# Altium schematic symbol library Pathos_Div.SCHLIB: 26 symbols
Pins are listed as number, name and electrical type; pins without a type are passive.

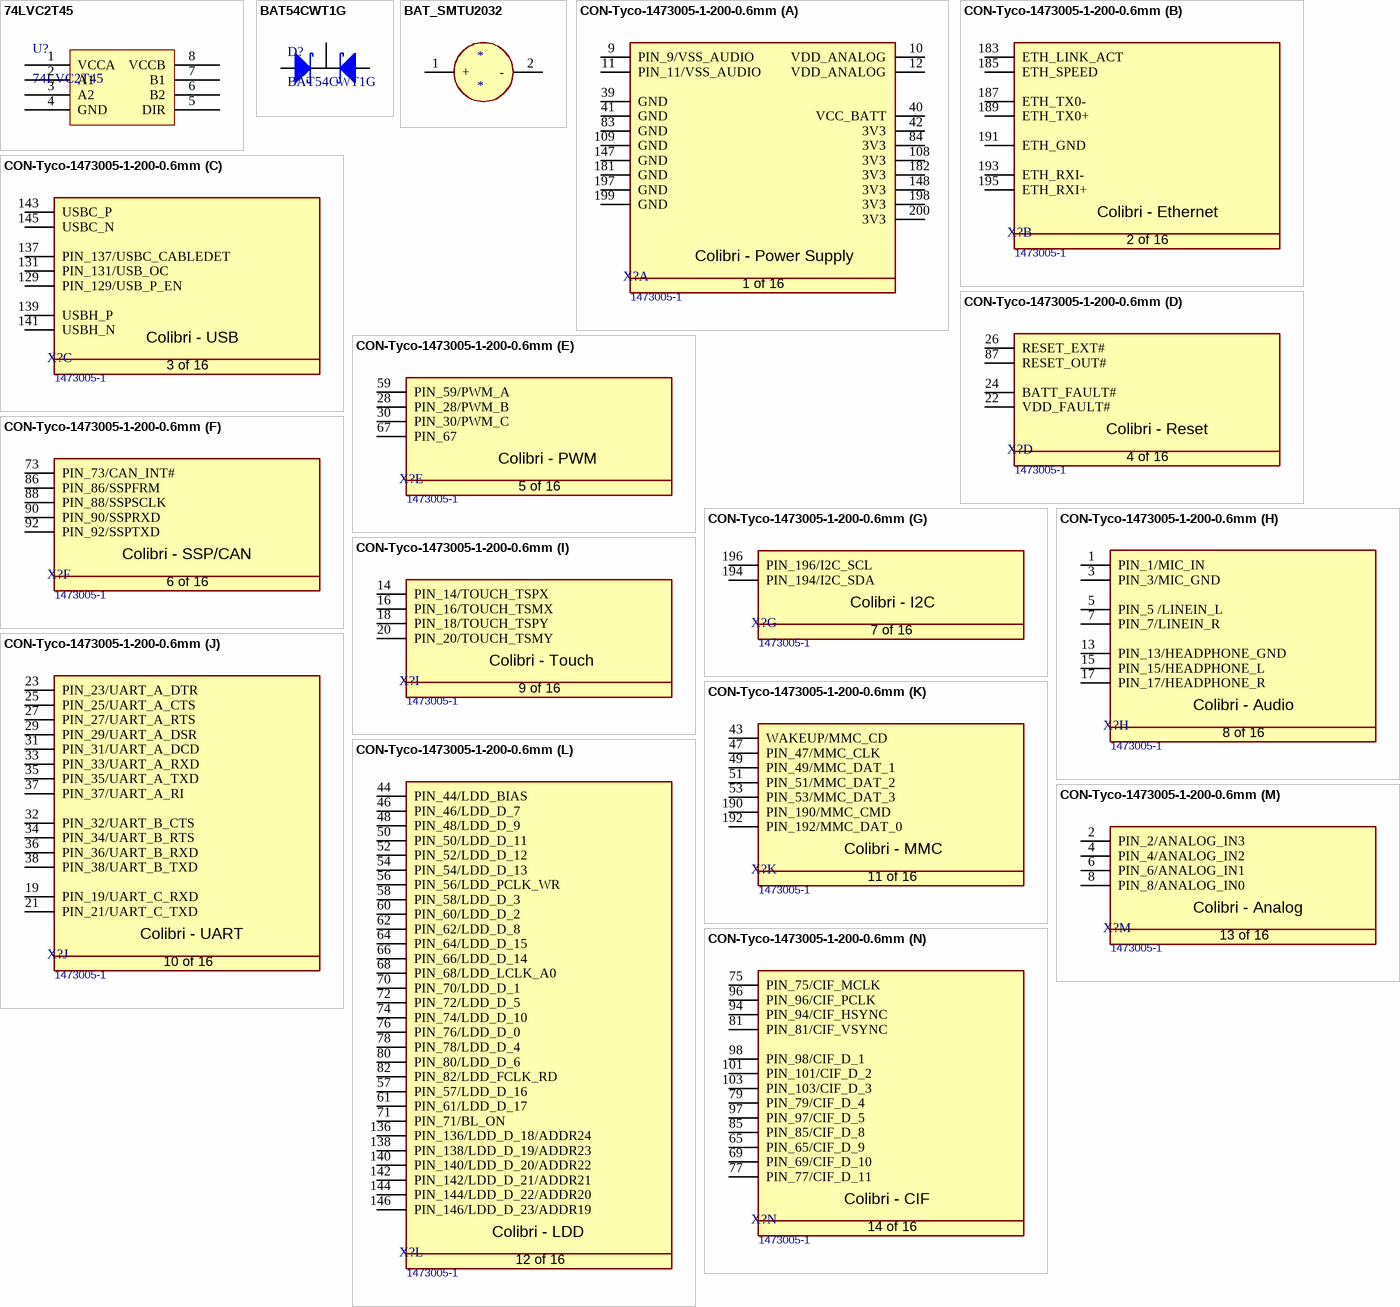
[diagram p0: symbols 74LVC2T45 to CON-Tyco-1473005-1-200-0.6mm]

## 74LVC2T45
designator U?
SN74LVC2T45DCTR
footprint 74LVC2T45
pins: 1 VCCA, 2 A1, 3 A2, 4 GND, 5 DIR, 6 B2, 7 B1, 8 VCCB

## BAT54CWT1G
designator D?
footprint SOT-323 (SOT-323/SC-70; 3 Leads; Body 2.2 x 2.2 mm, inc. leads (LxW max))
pins: 1, 2, 3

## BAT_SMTU2032
designator *
footprint SMTU2032-LF
pins: 1 +, 2 -

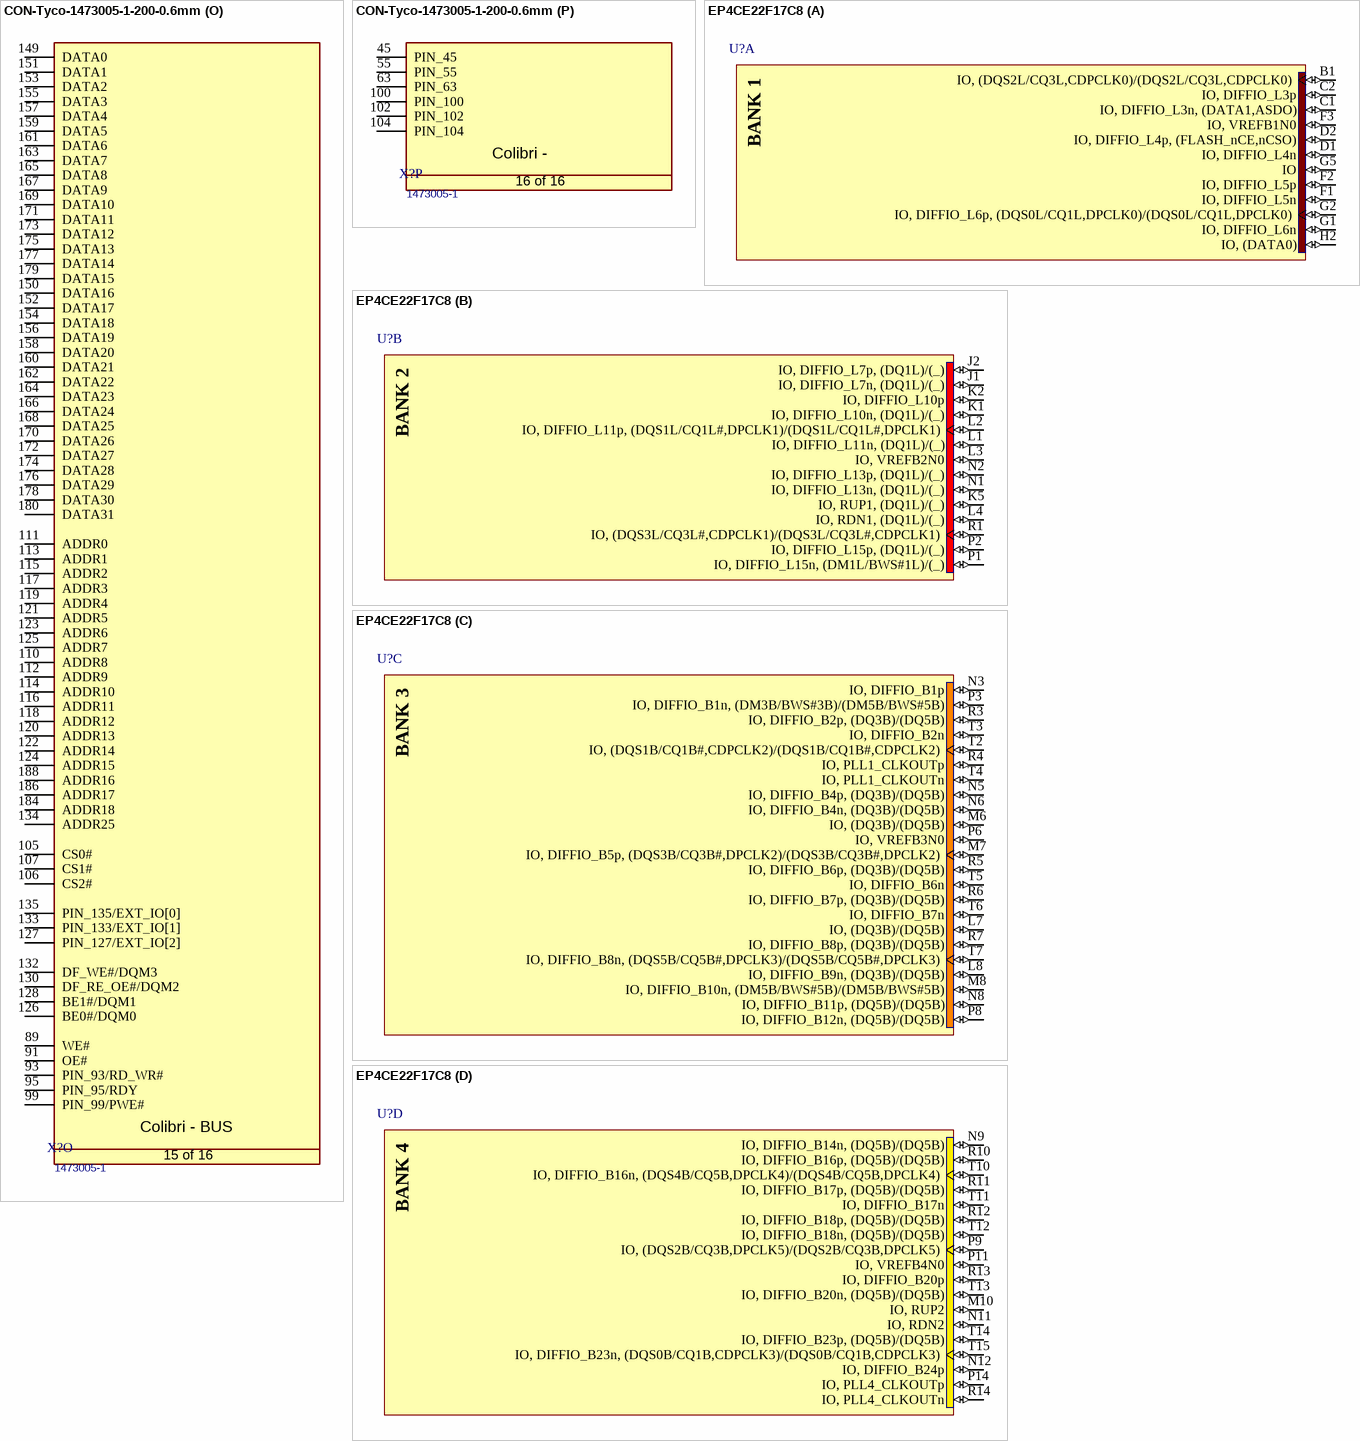
[diagram p1: symbols CON-Tyco-1473005-1-200-0.6mm to EP4CE22F17C8]

## CON-Tyco-1473005-1-200-0.6mm
designator X?  Manufacturer Part No.: 1473005-1  (hidden comment: CON-Tyco-1473005-1-200-0.6mm)
SODIMM Connector; Manufacturer Name: Tyco; No. of ways: 200
footprint T_Tyco_1473005-1 (SODIMM Connector)
part A pins: 9 PIN_9/VSS_AUDIO, 10 VDD_ANALOG, 11 PIN_11/VSS_AUDIO, 12 VDD_ANALOG, 39 GND (power), 40 VCC_BATT (power), 41 GND (power), 42 3V3 (power), 83 GND (power), 84 3V3 (power), 108 3V3, 109 GND (power), 147 GND (power), 148 3V3, 181 GND (power), 182 3V3 (power), 197 GND (power), 198 3V3 (power), 199 GND (power), 200 3V3 (power)
part B pins: 183 ETH_LINK_ACT, 185 ETH_SPEED, 187 ETH_TX0-, 189 ETH_TX0+, 191 ETH_GND, 193 ETH_RXI-, 195 ETH_RXI+
part C pins: 129 PIN_129/USB_P_EN, 131 PIN_131/USB_OC, 137 PIN_137/USBC_CABLEDET, 139 USBH_P, 141 USBH_N, 143 USBC_P, 145 USBC_N
part D pins: 22 VDD_FAULT#, 24 BATT_FAULT#, 26 RESET_EXT#, 87 RESET_OUT#
part E pins: 28 PIN_28/PWM_B, 30 PIN_30/PWM_C, 59 PIN_59/PWM_A, 67 PIN_67
part F pins: 73 PIN_73/CAN_INT#, 86 PIN_86/SSPFRM, 88 PIN_88/SSPSCLK, 90 PIN_90/SSPRXD, 92 PIN_92/SSPTXD
part G pins: 194 PIN_194/I2C_SDA, 196 PIN_196/I2C_SCL
part H pins: 1 PIN_1/MIC_IN, 3 PIN_3/MIC_GND, 5 PIN_5 /LINEIN_L, 7 PIN_7/LINEIN_R, 13 PIN_13/HEADPHONE_GND, 15 PIN_15/HEADPHONE_L, 17 PIN_17/HEADPHONE_R
part I pins: 14 PIN_14/TOUCH_TSPX, 16 PIN_16/TOUCH_TSMX, 18 PIN_18/TOUCH_TSPY, 20 PIN_20/TOUCH_TSMY
part J pins: 19 PIN_19/UART_C_RXD, 21 PIN_21/UART_C_TXD, 23 PIN_23/UART_A_DTR, 25 PIN_25/UART_A_CTS, 27 PIN_27/UART_A_RTS, 29 PIN_29/UART_A_DSR, 31 PIN_31/UART_A_DCD, 32 PIN_32/UART_B_CTS, 33 PIN_33/UART_A_RXD, 34 PIN_34/UART_B_RTS, 35 PIN_35/UART_A_TXD, 36 PIN_36/UART_B_RXD, 37 PIN_37/UART_A_RI, 38 PIN_38/UART_B_TXD
part K pins: 43 WAKEUP/MMC_CD, 47 PIN_47/MMC_CLK, 49 PIN_49/MMC_DAT_1, 51 PIN_51/MMC_DAT_2, 53 PIN_53/MMC_DAT_3, 190 PIN_190/MMC_CMD, 192 PIN_192/MMC_DAT_0
part L pins: 44 PIN_44/LDD_BIAS, 46 PIN_46/LDD_D_7, 48 PIN_48/LDD_D_9, 50 PIN_50/LDD_D_11, 52 PIN_52/LDD_D_12, 54 PIN_54/LDD_D_13, 56 PIN_56/LDD_PCLK_WR, 57 PIN_57/LDD_D_16, 58 PIN_58/LDD_D_3, 60 PIN_60/LDD_D_2, 61 PIN_61/LDD_D_17, 62 PIN_62/LDD_D_8, 64 PIN_64/LDD_D_15, 66 PIN_66/LDD_D_14, 68 PIN_68/LDD_LCLK_A0, 70 PIN_70/LDD_D_1, 71 PIN_71/BL_ON, 72 PIN_72/LDD_D_5, 74 PIN_74/LDD_D_10, 76 PIN_76/LDD_D_0, 78 PIN_78/LDD_D_4, 80 PIN_80/LDD_D_6, 82 PIN_82/LDD_FCLK_RD, 136 PIN_136/LDD_D_18/ADDR24, 138 PIN_138/LDD_D_19/ADDR23, 140 PIN_140/LDD_D_20/ADDR22, 142 PIN_142/LDD_D_21/ADDR21, 144 PIN_144/LDD_D_22/ADDR20, 146 PIN_146/LDD_D_23/ADDR19
part M pins: 2 PIN_2/ANALOG_IN3, 4 PIN_4/ANALOG_IN2, 6 PIN_6/ANALOG_IN1, 8 PIN_8/ANALOG_IN0
part N pins: 65 PIN_65/CIF_D_9, 69 PIN_69/CIF_D_10, 75 PIN_75/CIF_MCLK, 77 PIN_77/CIF_D_11, 79 PIN_79/CIF_D_4, 81 PIN_81/CIF_VSYNC, 85 PIN_85/CIF_D_8, 94 PIN_94/CIF_HSYNC, 96 PIN_96/CIF_PCLK, 97 PIN_97/CIF_D_5, 98 PIN_98/CIF_D_1, 101 PIN_101/CIF_D_2, 103 PIN_103/CIF_D_3
part O pins: 89 WE#, 91 OE#, 93 PIN_93/RD_WR#, 95 PIN_95/RDY, 99 PIN_99/PWE#, 105 CS0#, 106 CS2#, 107 CS1#, 110 ADDR8, 111 ADDR0, 112 ADDR9, 113 ADDR1, 114 ADDR10, 115 ADDR2, 116 ADDR11, 117 ADDR3, 118 ADDR12, 119 ADDR4, 120 ADDR13, 121 ADDR5, 122 ADDR14, 123 ADDR6, 124 ADDR15, 125 ADDR7, 126 BE0#/DQM0, 127 PIN_127/EXT_IO[2], 128 BE1#/DQM1, 130 DF_RE_OE#/DQM2, 132 DF_WE#/DQM3, 133 PIN_133/EXT_IO[1], 134 ADDR25, 135 PIN_135/EXT_IO[0], 149 DATA0, 150 DATA16, 151 DATA1, 152 DATA17, 153 DATA2, 154 DATA18, 155 DATA3, 156 DATA19, 157 DATA4, 158 DATA20, 159 DATA5, 160 DATA21, 161 DATA6, 162 DATA22, 163 DATA7, 164 DATA23, 165 DATA8, 166 DATA24, 167 DATA9, 168 DATA25, 169 DATA10, 170 DATA26, 171 DATA11, 172 DATA27, 173 DATA12, 174 DATA28, 175 DATA13, 176 DATA29, 177 DATA14, 178 DATA30, 179 DATA15, 180 DATA31, 184 ADDR18, 186 ADDR17, 188 ADDR16
part P pins: 45 PIN_45, 55 PIN_55, 63 PIN_63, 100 PIN_100, 102 PIN_102, 104 PIN_104
part A text: Colibri - Power Supply; 1 of 16
part B text: Colibri - Ethernet; 2 of 16
part C text: Colibri - USB; 3 of 16
part D text: Colibri - Reset; 4 of 16
part E text: Colibri - PWM; 5 of 16
part F text: Colibri - SSP/CAN; 6 of 16
part G text: Colibri - I2C; 7 of 16
part H text: Colibri - Audio; 8 of 16
part I text: Colibri - Touch; 9 of 16
part J text: Colibri - UART; 10 of 16
part K text: Colibri - MMC; 11 of 16
part L text: Colibri - LDD; 12 of 16
part M text: Colibri - Analog; 13 of 16
part N text: Colibri - CIF; 14 of 16
part O text: Colibri - BUS; 15 of 16
part P text: Colibri -; 16 of 16

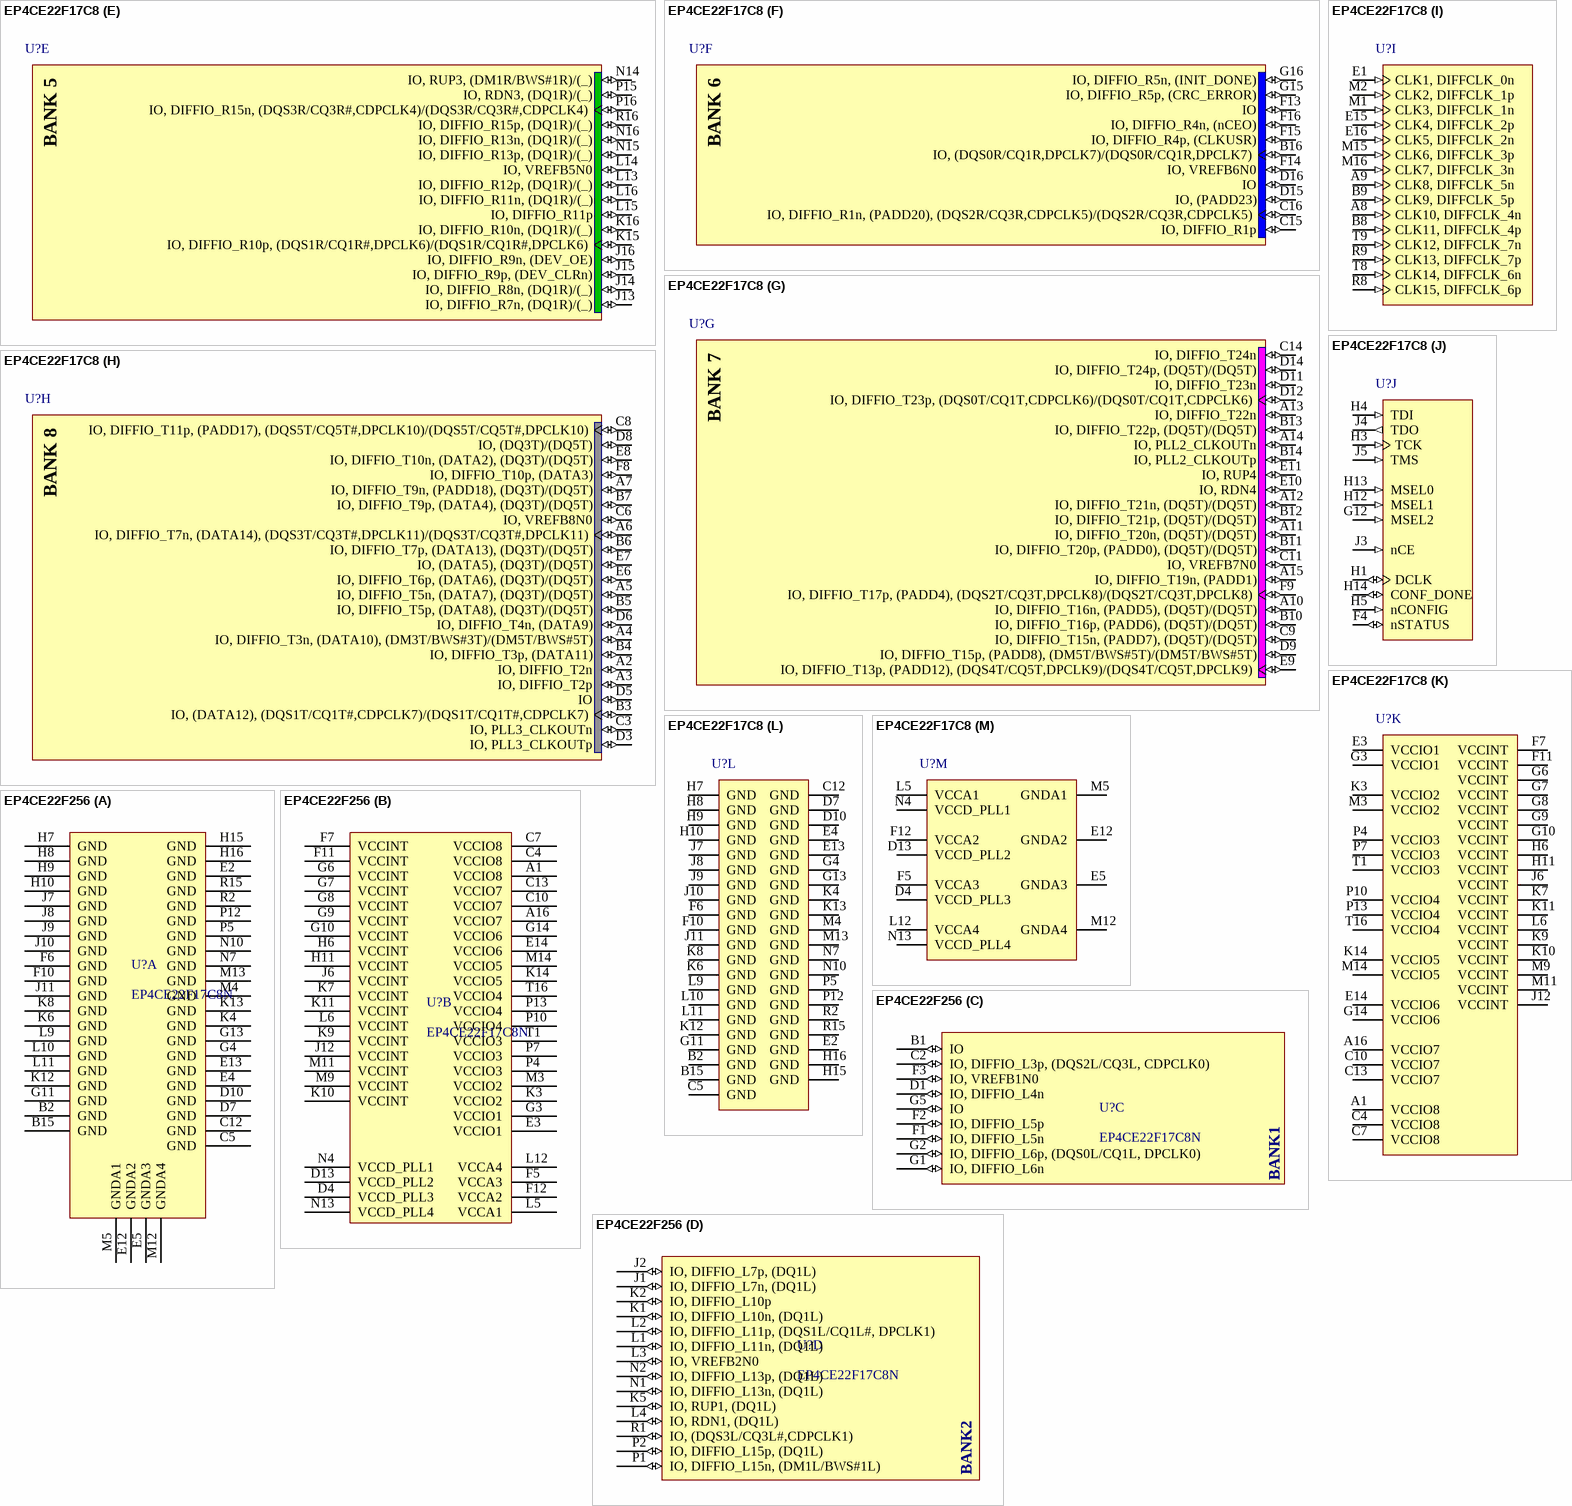
[diagram p2: symbols EP4CE22F17C8 to EP4CE22F256]

## EP4CE22F17C8
designator U?
Cyclone IV Family FPGA, 2V Core, 153 I/O Pins, 4 PLLs, 256-Pin FBGA, Speed Grade 8, Commercial Grade; Published: 3-May-2010; DatasheetVersion: ver1.2, Mar-2010; PackageVersion: ver16.0, Dec-2009; PackageReference: FBGA256; Publisher: Altium Limited; PackageDescription: 256-Ball FineLine Ball Grid Array (FBGA256) - Option 1 - Wire Bond; Supplier 1: Digi-Key; Supplier Part Number 1: EP4CE22F17C8-ND; Code_JEDEC: MS-034-AAF-1; Code_IPC: BGA100P16X16-256; ComponentLink1Description: Manufacturer Link; ComponentLink1URL: http://www.altera.com/; ComponentLink2Description: Handbook; ComponentLink2URL: http://www.altera.com/literature/hb/cyclone-iv/cyclone4-handbook.pdf; ComponentLink3Description: Pinout Specification; ComponentLink3URL: http://www.altera.com/literature/lit-dp.jsp?category=cyc%204&showspreadsheet=y; ComponentLink4Description: Packaging Specification; ComponentLink4URL: http://www.altera.com/literature/ds/dspkg.pdf
footprint FBGA256 (BGA, 256-Leads, Body 17x17mm, Pitch 1mm)
signal-integrity model EP4CE_F256 (Cyclone IV)
part A pins: B1 IO, (DQS2L/CQ3L,CDPCLK0)/(DQS2L/CQ3L,CDPCLK0) (io), C1 IO, DIFFIO_L3n, (DATA1,ASDO) (io), C2 IO, DIFFIO_L3p (io), D1 IO, DIFFIO_L4n (io), D2 IO, DIFFIO_L4p, (FLASH_nCE,nCSO) (io), F1 IO, DIFFIO_L5n (io), F2 IO, DIFFIO_L5p (io), F3 IO, VREFB1N0 (io), G1 IO, DIFFIO_L6n (io), G2 IO, DIFFIO_L6p, (DQS0L/CQ1L,DPCLK0)/(DQS0L/CQ1L,DPCLK0) (io), G5 IO (io), H2 IO, (DATA0) (io)
part B pins: J1 IO, DIFFIO_L7n, (DQ1L)/(_) (io), J2 IO, DIFFIO_L7p, (DQ1L)/(_) (io), K1 IO, DIFFIO_L10n, (DQ1L)/(_) (io), K2 IO, DIFFIO_L10p (io), K5 IO, RUP1, (DQ1L)/(_) (io), L1 IO, DIFFIO_L11n, (DQ1L)/(_) (io), L2 IO, DIFFIO_L11p, (DQS1L/CQ1L#,DPCLK1)/(DQS1L/CQ1L#,DPCLK1) (io), L3 IO, VREFB2N0 (io), L4 IO, RDN1, (DQ1L)/(_) (io), N1 IO, DIFFIO_L13n, (DQ1L)/(_) (io), N2 IO, DIFFIO_L13p, (DQ1L)/(_) (io), P1 IO, DIFFIO_L15n, (DM1L/BWS#1L)/(_) (io), P2 IO, DIFFIO_L15p, (DQ1L)/(_) (io), R1 IO, (DQS3L/CQ3L#,CDPCLK1)/(DQS3L/CQ3L#,CDPCLK1) (io)
part C pins: L7 IO, (DQ3B)/(DQ5B) (io), L8 IO, DIFFIO_B9n, (DQ3B)/(DQ5B) (io), M6 IO, (DQ3B)/(DQ5B) (io), M7 IO, DIFFIO_B5p, (DQS3B/CQ3B#,DPCLK2)/(DQS3B/CQ3B#,DPCLK2) (io), M8 IO, DIFFIO_B10n, (DM5B/BWS#5B)/(DM5B/BWS#5B) (io), N3 IO, DIFFIO_B1p (io), N5 IO, DIFFIO_B4p, (DQ3B)/(DQ5B) (io), N6 IO, DIFFIO_B4n, (DQ3B)/(DQ5B) (io), N8 IO, DIFFIO_B11p, (DQ5B)/(DQ5B) (io), P3 IO, DIFFIO_B1n, (DM3B/BWS#3B)/(DM5B/BWS#5B) (io), P6 IO, VREFB3N0 (io), P8 IO, DIFFIO_B12n, (DQ5B)/(DQ5B) (io), R3 IO, DIFFIO_B2p, (DQ3B)/(DQ5B) (io), R4 IO, PLL1_CLKOUTp (io), R5 IO, DIFFIO_B6p, (DQ3B)/(DQ5B) (io), R6 IO, DIFFIO_B7p, (DQ3B)/(DQ5B) (io), R7 IO, DIFFIO_B8p, (DQ3B)/(DQ5B) (io), T2 IO, (DQS1B/CQ1B#,CDPCLK2)/(DQS1B/CQ1B#,CDPCLK2) (io), T3 IO, DIFFIO_B2n (io), T4 IO, PLL1_CLKOUTn (io), T5 IO, DIFFIO_B6n (io), T6 IO, DIFFIO_B7n (io), T7 IO, DIFFIO_B8n, (DQS5B/CQ5B#,DPCLK3)/(DQS5B/CQ5B#,DPCLK3) (io)
part D pins: M10 IO, RUP2 (io), N9 IO, DIFFIO_B14n, (DQ5B)/(DQ5B) (io), N11 IO, RDN2 (io), N12 IO, DIFFIO_B24p (io), P9 IO, (DQS2B/CQ3B,DPCLK5)/(DQS2B/CQ3B,DPCLK5) (io), P11 IO, VREFB4N0 (io), P14 IO, PLL4_CLKOUTp (io), R10 IO, DIFFIO_B16p, (DQ5B)/(DQ5B) (io), R11 IO, DIFFIO_B17p, (DQ5B)/(DQ5B) (io), R12 IO, DIFFIO_B18p, (DQ5B)/(DQ5B) (io), R13 IO, DIFFIO_B20p (io), R14 IO, PLL4_CLKOUTn (io), T10 IO, DIFFIO_B16n, (DQS4B/CQ5B,DPCLK4)/(DQS4B/CQ5B,DPCLK4) (io), T11 IO, DIFFIO_B17n (io), T12 IO, DIFFIO_B18n, (DQ5B)/(DQ5B) (io), T13 IO, DIFFIO_B20n, (DQ5B)/(DQ5B) (io), T14 IO, DIFFIO_B23p, (DQ5B)/(DQ5B) (io), T15 IO, DIFFIO_B23n, (DQS0B/CQ1B,CDPCLK3)/(DQS0B/CQ1B,CDPCLK3) (io)
part E pins: J13 IO, DIFFIO_R7n, (DQ1R)/(_) (io), J14 IO, DIFFIO_R8n, (DQ1R)/(_) (io), J15 IO, DIFFIO_R9p, (DEV_CLRn) (io), J16 IO, DIFFIO_R9n, (DEV_OE) (io), K15 IO, DIFFIO_R10p, (DQS1R/CQ1R#,DPCLK6)/(DQS1R/CQ1R#,DPCLK6) (io), K16 IO, DIFFIO_R10n, (DQ1R)/(_) (io), L13 IO, DIFFIO_R12p, (DQ1R)/(_) (io), L14 IO, VREFB5N0 (io), L15 IO, DIFFIO_R11p (io), L16 IO, DIFFIO_R11n, (DQ1R)/(_) (io), N14 IO, RUP3, (DM1R/BWS#1R)/(_) (io), N15 IO, DIFFIO_R13p, (DQ1R)/(_) (io), N16 IO, DIFFIO_R13n, (DQ1R)/(_) (io), P15 IO, RDN3, (DQ1R)/(_) (io), P16 IO, DIFFIO_R15n, (DQS3R/CQ3R#,CDPCLK4)/(DQS3R/CQ3R#,CDPCLK4) (io), R16 IO, DIFFIO_R15p, (DQ1R)/(_) (io)
part F pins: B16 IO, (DQS0R/CQ1R,DPCLK7)/(DQS0R/CQ1R,DPCLK7) (io), C15 IO, DIFFIO_R1p (io), C16 IO, DIFFIO_R1n, (PADD20), (DQS2R/CQ3R,CDPCLK5)/(DQS2R/CQ3R,CDPCLK5) (io), D15 IO, (PADD23) (io), D16 IO (io), F13 IO (io), F14 IO, VREFB6N0 (io), F15 IO, DIFFIO_R4p, (CLKUSR) (io), F16 IO, DIFFIO_R4n, (nCEO) (io), G15 IO, DIFFIO_R5p, (CRC_ERROR) (io), G16 IO, DIFFIO_R5n, (INIT_DONE) (io)
part G pins: A10 IO, DIFFIO_T16n, (PADD5), (DQ5T)/(DQ5T) (io), A11 IO, DIFFIO_T20n, (DQ5T)/(DQ5T) (io), A12 IO, DIFFIO_T21n, (DQ5T)/(DQ5T) (io), A13 IO, DIFFIO_T22n (io), A14 IO, PLL2_CLKOUTn (io), A15 IO, DIFFIO_T19n, (PADD1) (io), B10 IO, DIFFIO_T16p, (PADD6), (DQ5T)/(DQ5T) (io), B11 IO, DIFFIO_T20p, (PADD0), (DQ5T)/(DQ5T) (io), B12 IO, DIFFIO_T21p, (DQ5T)/(DQ5T) (io), B13 IO, DIFFIO_T22p, (DQ5T)/(DQ5T) (io), B14 IO, PLL2_CLKOUTp (io), C9 IO, DIFFIO_T15n, (PADD7), (DQ5T)/(DQ5T) (io), C11 IO, VREFB7N0 (io), C14 IO, DIFFIO_T24n (io), D9 IO, DIFFIO_T15p, (PADD8), (DM5T/BWS#5T)/(DM5T/BWS#5T) (io), D11 IO, DIFFIO_T23n (io), D12 IO, DIFFIO_T23p, (DQS0T/CQ1T,CDPCLK6)/(DQS0T/CQ1T,CDPCLK6) (io), D14 IO, DIFFIO_T24p, (DQ5T)/(DQ5T) (io), E9 IO, DIFFIO_T13p, (PADD12), (DQS4T/CQ5T,DPCLK9)/(DQS4T/CQ5T,DPCLK9) (io), E10 IO, RDN4 (io), E11 IO, RUP4 (io), F9 IO, DIFFIO_T17p, (PADD4), (DQS2T/CQ3T,DPCLK8)/(DQS2T/CQ3T,DPCLK8) (io)
part H pins: A2 IO, DIFFIO_T2n (io), A3 IO, DIFFIO_T2p (io), A4 IO, DIFFIO_T3n, (DATA10), (DM3T/BWS#3T)/(DM5T/BWS#5T) (io), A5 IO, DIFFIO_T5n, (DATA7), (DQ3T)/(DQ5T) (io), A6 IO, DIFFIO_T7n, (DATA14), (DQS3T/CQ3T#,DPCLK11)/(DQS3T/CQ3T#,DPCLK11) (io), A7 IO, DIFFIO_T9n, (PADD18), (DQ3T)/(DQ5T) (io), B3 IO, (DATA12), (DQS1T/CQ1T#,CDPCLK7)/(DQS1T/CQ1T#,CDPCLK7) (io), B4 IO, DIFFIO_T3p, (DATA11) (io), B5 IO, DIFFIO_T5p, (DATA8), (DQ3T)/(DQ5T) (io), B6 IO, DIFFIO_T7p, (DATA13), (DQ3T)/(DQ5T) (io), B7 IO, DIFFIO_T9p, (DATA4), (DQ3T)/(DQ5T) (io), C3 IO, PLL3_CLKOUTn (io), C6 IO, VREFB8N0 (io), C8 IO, DIFFIO_T11p, (PADD17), (DQS5T/CQ5T#,DPCLK10)/(DQS5T/CQ5T#,DPCLK10) (io), D3 IO, PLL3_CLKOUTp (io), D5 IO (io), D6 IO, DIFFIO_T4n, (DATA9) (io), D8 IO, (DQ3T)/(DQ5T) (io), E6 IO, DIFFIO_T6p, (DATA6), (DQ3T)/(DQ5T) (io), E7 IO, (DATA5), (DQ3T)/(DQ5T) (io), E8 IO, DIFFIO_T10n, (DATA2), (DQ3T)/(DQ5T) (io), F8 IO, DIFFIO_T10p, (DATA3) (io)
part I pins: A8 CLK10, DIFFCLK_4n (in), A9 CLK8, DIFFCLK_5n (in), B8 CLK11, DIFFCLK_4p (in), B9 CLK9, DIFFCLK_5p (in), E1 CLK1, DIFFCLK_0n (in), E15 CLK4, DIFFCLK_2p (in), E16 CLK5, DIFFCLK_2n (in), M1 CLK3, DIFFCLK_1n (in), M2 CLK2, DIFFCLK_1p (in), M15 CLK6, DIFFCLK_3p (in), M16 CLK7, DIFFCLK_3n (in), R8 CLK15, DIFFCLK_6p (in), R9 CLK13, DIFFCLK_7p (in), T8 CLK14, DIFFCLK_6n (in), T9 CLK12, DIFFCLK_7n (in)
part J pins: F4 nSTATUS (io), G12 MSEL2 (in), H1 DCLK (io), H3 TCK (in), H4 TDI (in), H5 nCONFIG (in), H12 MSEL1 (in), H13 MSEL0 (in), H14 CONF_DONE (io), J3 nCE (in), J4 TDO (out), J5 TMS (in)
part K pins: A1 VCCIO8 (power), A16 VCCIO7 (power), C4 VCCIO8 (power), C7 VCCIO8 (power), C10 VCCIO7 (power), C13 VCCIO7 (power), E3 VCCIO1 (power), E14 VCCIO6 (power), F7 VCCINT (power), F11 VCCINT (power), G3 VCCIO1 (power), G6 VCCINT (power), G7 VCCINT (power), G8 VCCINT (power), G9 VCCINT (power), G10 VCCINT (power), G14 VCCIO6 (power), H6 VCCINT (power), H11 VCCINT (power), J6 VCCINT (power), J12 VCCINT (power), K3 VCCIO2 (power), K7 VCCINT (power), K9 VCCINT (power), K10 VCCINT (power), K11 VCCINT (power), K14 VCCIO5 (power), L6 VCCINT (power), M3 VCCIO2 (power), M9 VCCINT (power), M11 VCCINT (power), M14 VCCIO5 (power), P4 VCCIO3 (power), P7 VCCIO3 (power), P10 VCCIO4 (power), P13 VCCIO4 (power), T1 VCCIO3 (power), T16 VCCIO4 (power)
part L pins: B2 GND (power), B15 GND (power), C5 GND (power), C12 GND (power), D7 GND (power), D10 GND (power), E2 GND (power), E4 GND (power), E13 GND (power), F6 GND (power), F10 GND (power), G4 GND (power), G11 GND (power), G13 GND (power), H7 GND (power), H8 GND (power), H9 GND (power), H10 GND (power), H15 GND (power), H16 GND (power), J7 GND (power), J8 GND (power), J9 GND (power), J10 GND (power), J11 GND (power), K4 GND (power), K6 GND (power), K8 GND (power), K12 GND (power), K13 GND (power), L9 GND (power), L10 GND (power), L11 GND (power), M4 GND (power), M13 GND (power), N7 GND (power), N10 GND (power), P5 GND (power), P12 GND (power), R2 GND (power), R15 GND (power)
part M pins: D4 VCCD_PLL3 (power), D13 VCCD_PLL2 (power), E5 GNDA3 (power), E12 GNDA2 (power), F5 VCCA3 (power), F12 VCCA2 (power), L5 VCCA1 (power), L12 VCCA4 (power), M5 GNDA1 (power), M12 GNDA4 (power), N4 VCCD_PLL1 (power), N13 VCCD_PLL4 (power)
part A text: BANK 1
part B text: BANK 2
part C text: BANK 3
part D text: BANK 4
part E text: BANK 5
part F text: BANK 6
part G text: BANK 7
part H text: BANK 8

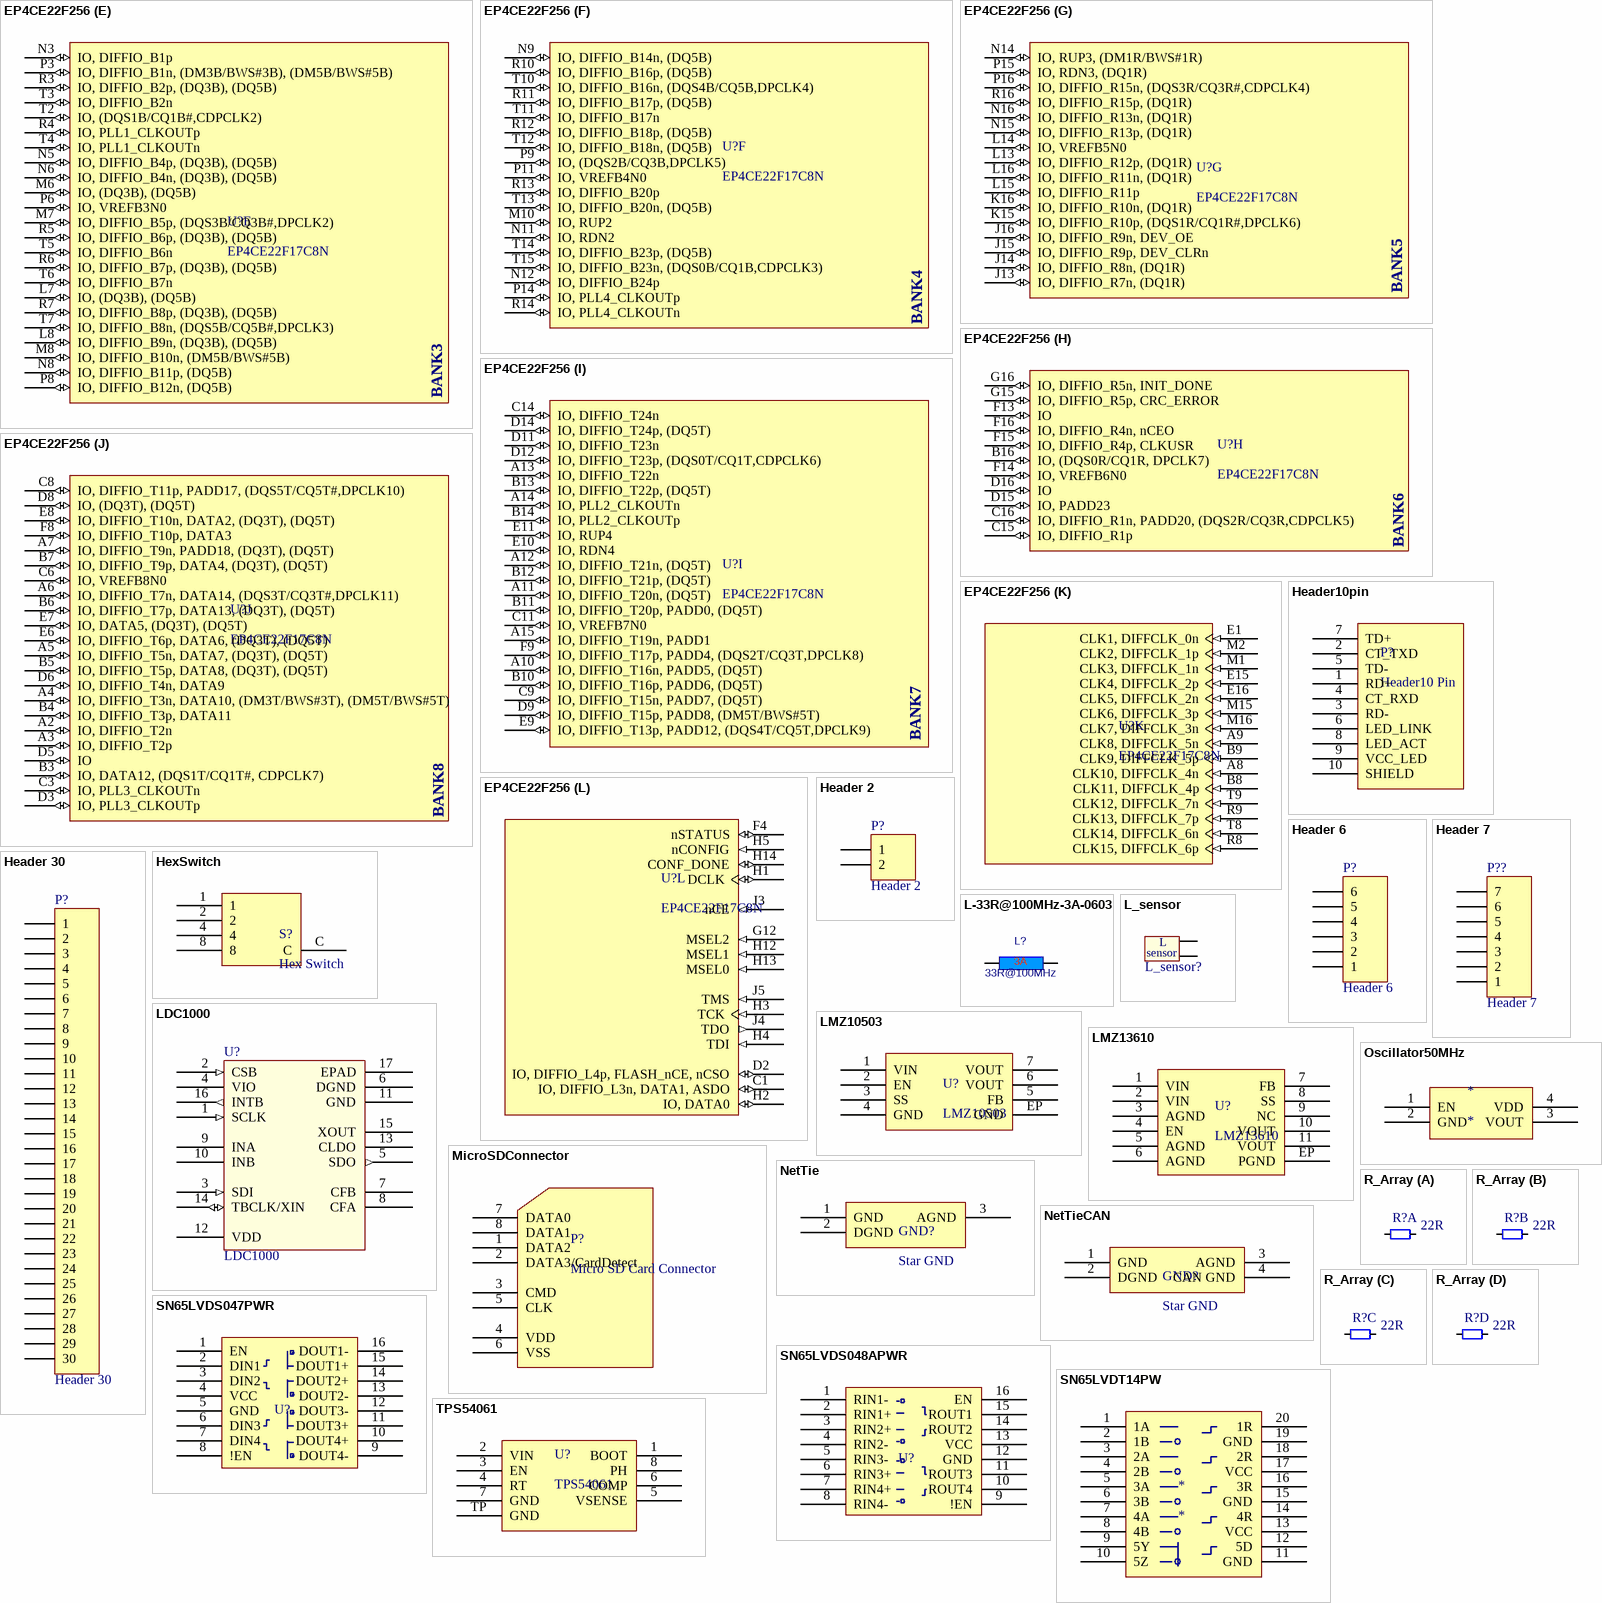
[diagram p3: symbols EP4CE22F256 to TPS54061]

## EP4CE22F256
designator U?, comment EP4CE22F17C8N
footprint FBGA256 (256-Ball FineLine Ball Grid Array (FBGA256) - Option 1)
part A pins: B2 GND (power), B15 GND (power), C5 GND (power), C12 GND (power), D7 GND (power), D10 GND (power), E2 GND (power), E4 GND (power), E5 GNDA3 (power), E12 GNDA2 (power), E13 GND (power), F6 GND (power), F10 GND (power), G4 GND (power), G11 GND (power), G13 GND (power), H7 GND (power), H8 GND (power), H9 GND (power), H10 GND (power), H15 GND (power), H16 GND (power), J7 GND (power), J8 GND (power), J9 GND (power), J10 GND (power), J11 GND (power), K4 GND (power), K6 GND (power), K8 GND (power), K12 GND (power), K13 GND (power), L9 GND (power), L10 GND (power), L11 GND (power), M4 GND (power), M5 GNDA1 (power), M12 GNDA4 (power), M13 GND (power), N7 GND (power), N10 GND (power), P5 GND (power), P12 GND (power), R2 GND (power), R15 GND (power)
part B pins: A1 VCCIO8 (power), A16 VCCIO7 (power), C4 VCCIO8 (power), C7 VCCIO8 (power), C10 VCCIO7 (power), C13 VCCIO7 (power), D4 VCCD_PLL3 (power), D13 VCCD_PLL2 (power), E3 VCCIO1 (power), E14 VCCIO6 (power), F5 VCCA3 (power), F7 VCCINT (power), F11 VCCINT (power), F12 VCCA2 (power), G3 VCCIO1 (power), G6 VCCINT (power), G7 VCCINT (power), G8 VCCINT (power), G9 VCCINT (power), G10 VCCINT (power), G14 VCCIO6 (power), H6 VCCINT (power), H11 VCCINT (power), J6 VCCINT (power), J12 VCCINT (power), K3 VCCIO2 (power), K7 VCCINT (power), K9 VCCINT (power), K10 VCCINT (power), K11 VCCINT (power), K14 VCCIO5 (power), L5 VCCA1 (power), L6 VCCINT (power), L12 VCCA4 (power), M3 VCCIO2 (power), M9 VCCINT (power), M11 VCCINT (power), M14 VCCIO5 (power), N4 VCCD_PLL1 (power), N13 VCCD_PLL4 (power), P4 VCCIO3 (power), P7 VCCIO3 (power), P10 VCCIO4 (power), P13 VCCIO4 (power), T1 VCCIO3 (power), T16 VCCIO4 (power)
part C pins: B1 IO (io), C2 IO, DIFFIO_L3p, (DQS2L/CQ3L, CDPCLK0) (io), D1 IO, DIFFIO_L4n (io), F1 IO, DIFFIO_L5n (io), F2 IO, DIFFIO_L5p (io), F3 IO, VREFB1N0 (io), G1 IO, DIFFIO_L6n (io), G2 IO, DIFFIO_L6p, (DQS0L/CQ1L, DPCLK0) (io), G5 IO (io)
part D pins: J1 IO, DIFFIO_L7n, (DQ1L) (io), J2 IO, DIFFIO_L7p, (DQ1L) (io), K1 IO, DIFFIO_L10n, (DQ1L) (io), K2 IO, DIFFIO_L10p (io), K5 IO, RUP1, (DQ1L) (io), L1 IO, DIFFIO_L11n, (DQ1L) (io), L2 IO, DIFFIO_L11p, (DQS1L/CQ1L#, DPCLK1) (io), L3 IO, VREFB2N0 (io), L4 IO, RDN1, (DQ1L) (io), N1 IO, DIFFIO_L13n, (DQ1L) (io), N2 IO, DIFFIO_L13p, (DQ1L) (io), P1 IO, DIFFIO_L15n, (DM1L/BWS#1L) (io), P2 IO, DIFFIO_L15p, (DQ1L) (io), R1 IO, (DQS3L/CQ3L#,CDPCLK1) (io)
part E pins: L7 IO, (DQ3B), (DQ5B) (io), L8 IO, DIFFIO_B9n, (DQ3B), (DQ5B) (io), M6 IO, (DQ3B), (DQ5B) (io), M7 IO, DIFFIO_B5p, (DQS3B/CQ3B#,DPCLK2) (io), M8 IO, DIFFIO_B10n, (DM5B/BWS#5B) (io), N3 IO, DIFFIO_B1p (io), N5 IO, DIFFIO_B4p, (DQ3B), (DQ5B) (io), N6 IO, DIFFIO_B4n, (DQ3B), (DQ5B) (io), N8 IO, DIFFIO_B11p, (DQ5B) (io), P3 IO, DIFFIO_B1n, (DM3B/BWS#3B), (DM5B/BWS#5B) (io), P6 IO, VREFB3N0 (io), P8 IO, DIFFIO_B12n, (DQ5B) (io), R3 IO, DIFFIO_B2p, (DQ3B), (DQ5B) (io), R4 IO, PLL1_CLKOUTp (io), R5 IO, DIFFIO_B6p, (DQ3B), (DQ5B) (io), R6 IO, DIFFIO_B7p, (DQ3B), (DQ5B) (io), R7 IO, DIFFIO_B8p, (DQ3B), (DQ5B) (io), T2 IO, (DQS1B/CQ1B#,CDPCLK2) (io), T3 IO, DIFFIO_B2n (io), T4 IO, PLL1_CLKOUTn (io), T5 IO, DIFFIO_B6n (io), T6 IO, DIFFIO_B7n (io), T7 IO, DIFFIO_B8n, (DQS5B/CQ5B#,DPCLK3) (io)
part F pins: M10 IO, RUP2 (io), N9 IO, DIFFIO_B14n, (DQ5B) (io), N11 IO, RDN2 (io), N12 IO, DIFFIO_B24p (io), P9 IO, (DQS2B/CQ3B,DPCLK5) (io), P11 IO, VREFB4N0 (io), P14 IO, PLL4_CLKOUTp (io), R10 IO, DIFFIO_B16p, (DQ5B) (io), R11 IO, DIFFIO_B17p, (DQ5B) (io), R12 IO, DIFFIO_B18p, (DQ5B) (io), R13 IO, DIFFIO_B20p (io), R14 IO, PLL4_CLKOUTn (io), T10 IO, DIFFIO_B16n, (DQS4B/CQ5B,DPCLK4) (io), T11 IO, DIFFIO_B17n (io), T12 IO, DIFFIO_B18n, (DQ5B) (io), T13 IO, DIFFIO_B20n, (DQ5B) (io), T14 IO, DIFFIO_B23p, (DQ5B) (io), T15 IO, DIFFIO_B23n, (DQS0B/CQ1B,CDPCLK3) (io)
part G pins: J13 IO, DIFFIO_R7n, (DQ1R) (io), J14 IO, DIFFIO_R8n, (DQ1R) (io), J15 IO, DIFFIO_R9p, DEV_CLRn (io), J16 IO, DIFFIO_R9n, DEV_OE (io), K15 IO, DIFFIO_R10p, (DQS1R/CQ1R#,DPCLK6) (io), K16 IO, DIFFIO_R10n, (DQ1R) (io), L13 IO, DIFFIO_R12p, (DQ1R) (io), L14 IO, VREFB5N0 (io), L15 IO, DIFFIO_R11p (io), L16 IO, DIFFIO_R11n, (DQ1R) (io), N14 IO, RUP3, (DM1R/BWS#1R) (io), N15 IO, DIFFIO_R13p, (DQ1R) (io), N16 IO, DIFFIO_R13n, (DQ1R) (io), P15 IO, RDN3, (DQ1R) (io), P16 IO, DIFFIO_R15n, (DQS3R/CQ3R#,CDPCLK4) (io), R16 IO, DIFFIO_R15p, (DQ1R) (io)
part H pins: B16 IO, (DQS0R/CQ1R, DPCLK7) (io), C15 IO, DIFFIO_R1p (io), C16 IO, DIFFIO_R1n, PADD20, (DQS2R/CQ3R,CDPCLK5) (io), D15 IO, PADD23 (io), D16 IO (io), F13 IO (io), F14 IO, VREFB6N0 (io), F15 IO, DIFFIO_R4p, CLKUSR (io), F16 IO, DIFFIO_R4n, nCEO (io), G15 IO, DIFFIO_R5p, CRC_ERROR (io), G16 IO, DIFFIO_R5n, INIT_DONE (io)
part I pins: A10 IO, DIFFIO_T16n, PADD5, (DQ5T) (io), A11 IO, DIFFIO_T20n, (DQ5T) (io), A12 IO, DIFFIO_T21n, (DQ5T) (io), A13 IO, DIFFIO_T22n (io), A14 IO, PLL2_CLKOUTn (io), A15 IO, DIFFIO_T19n, PADD1 (io), B10 IO, DIFFIO_T16p, PADD6, (DQ5T) (io), B11 IO, DIFFIO_T20p, PADD0, (DQ5T) (io), B12 IO, DIFFIO_T21p, (DQ5T) (io), B13 IO, DIFFIO_T22p, (DQ5T) (io), B14 IO, PLL2_CLKOUTp (io), C9 IO, DIFFIO_T15n, PADD7, (DQ5T) (io), C11 IO, VREFB7N0 (io), C14 IO, DIFFIO_T24n (io), D9 IO, DIFFIO_T15p, PADD8, (DM5T/BWS#5T) (io), D11 IO, DIFFIO_T23n (io), D12 IO, DIFFIO_T23p, (DQS0T/CQ1T,CDPCLK6) (io), D14 IO, DIFFIO_T24p, (DQ5T) (io), E9 IO, DIFFIO_T13p, PADD12, (DQS4T/CQ5T,DPCLK9) (io), E10 IO, RDN4 (io), E11 IO, RUP4 (io), F9 IO, DIFFIO_T17p, PADD4, (DQS2T/CQ3T,DPCLK8) (io)
part J pins: A2 IO, DIFFIO_T2n (io), A3 IO, DIFFIO_T2p (io), A4 IO, DIFFIO_T3n, DATA10, (DM3T/BWS#3T), (DM5T/BWS#5T) (io), A5 IO, DIFFIO_T5n, DATA7, (DQ3T), (DQ5T) (io), A6 IO, DIFFIO_T7n, DATA14, (DQS3T/CQ3T#,DPCLK11) (io), A7 IO, DIFFIO_T9n, PADD18, (DQ3T), (DQ5T) (io), B3 IO, DATA12, (DQS1T/CQ1T#, CDPCLK7) (io), B4 IO, DIFFIO_T3p, DATA11 (io), B5 IO, DIFFIO_T5p, DATA8, (DQ3T), (DQ5T) (io), B6 IO, DIFFIO_T7p, DATA13, (DQ3T), (DQ5T) (io), B7 IO, DIFFIO_T9p, DATA4, (DQ3T), (DQ5T) (io), C3 IO, PLL3_CLKOUTn (io), C6 IO, VREFB8N0 (io), C8 IO, DIFFIO_T11p, PADD17, (DQS5T/CQ5T#,DPCLK10) (io), D3 IO, PLL3_CLKOUTp (io), D5 IO (io), D6 IO, DIFFIO_T4n, DATA9 (io), D8 IO, (DQ3T), (DQ5T) (io), E6 IO, DIFFIO_T6p, DATA6, (DQ3T), (DQ5T) (io), E7 IO, DATA5, (DQ3T), (DQ5T) (io), E8 IO, DIFFIO_T10n, DATA2, (DQ3T), (DQ5T) (io), F8 IO, DIFFIO_T10p, DATA3 (io)
part K pins: A8 CLK10, DIFFCLK_4n (in), A9 CLK8, DIFFCLK_5n (in), B8 CLK11, DIFFCLK_4p (in), B9 CLK9, DIFFCLK_5p (in), E1 CLK1, DIFFCLK_0n (in), E15 CLK4, DIFFCLK_2p (in), E16 CLK5, DIFFCLK_2n (in), M1 CLK3, DIFFCLK_1n (in), M2 CLK2, DIFFCLK_1p (in), M15 CLK6, DIFFCLK_3p (in), M16 CLK7, DIFFCLK_3n (in), R8 CLK15, DIFFCLK_6p (in), R9 CLK13, DIFFCLK_7p (in), T8 CLK14, DIFFCLK_6n (in), T9 CLK12, DIFFCLK_7n (in)
part L pins: C1 IO, DIFFIO_L3n, DATA1, ASDO (io), D2 IO, DIFFIO_L4p, FLASH_nCE, nCSO (io), F4 nSTATUS (io), G12 MSEL2 (in), H1 DCLK (io), H2 IO, DATA0 (io), H3 TCK (in), H4 TDI (in), H5 nCONFIG (in), H12 MSEL1 (in), H13 MSEL0 (in), H14 CONF_DONE (io), J3 nCE (in), J4 TDO (out), J5 TMS (in)
part C text: BANK1
part D text: BANK2
part E text: BANK3
part F text: BANK4
part G text: BANK5
part H text: BANK6
part I text: BANK7
part J text: BANK8

## Header10pin
designator P?, comment Header10 Pin
Header to Ethernet Adapter Print
footprint FCI_Header_1.27mm_10pin (Farnell Nr. :  1865309)
pins: 1 RD+, 2 CT_TXD, 3 RD-, 4 CT_RXD, 5 TD-, 6 LED_LINK, 7 TD+, 8 LED_ACT, 9 VCC_LED, 10 SHIELD

## Header 2
designator P?
Header, 2-Pin; LatestRevisionDate: 17-Jul-2002; LatestRevisionNote: Re-released for DXP Platform.; Publisher: Altium Limited
footprint Header2Pads
signal-integrity model Connector
pins: 1, 2

## Header 6
designator P?
Header, 6-Pin; LatestRevisionDate: 17-Jul-2002; LatestRevisionNote: Re-released for DXP Platform.; Publisher: Altium Limited
footprint Header6Pads
signal-integrity model Connector
pins: 1, 2, 3, 4, 5, 6

## Header 7
designator P??
Header, 7-Pin; LatestRevisionDate: 17-Jul-2002; LatestRevisionNote: Re-released for DXP Platform.; Publisher: Altium Limited
footprint 0603_3D (SMD Chip 0603)
signal-integrity model Connector
pins: 1, 2, 3, 4, 5, 6, 7

## Header 30
designator P?
Header, 30-Pin; LatestRevisionDate: 17-Jul-2002; LatestRevisionNote: Re-released for DXP Platform.; Publisher: Altium Limited
signal-integrity model Connector
footprint FFC_Connector_30P
pins: 1, 2, 3, 4, 5, 6, 7, 8, 9, 10, 11, 12, 13, 14, 15, 16, 17, 18, 19, 20, 21, 22, 23, 24, 25, 26, 27, 28, 29, 30

## HexSwitch
designator S?, comment Hex Switch
footprint HEX_SWITCH_A6A-16R
pins: 1, 2, 4, 8, C

## L-33R@100MHz-3A-0603
designator L?, comment 33R@100MHz
33R@100MHz 3A EMI FILTER; Manufacturer: Generic; Rating: 2A; Tolerance: 25%; Manufacturer Part Number: *; Value: 33R@100MHz
footprint 0603_3D (SMD Chip 0603)
pins: 1, 2
text: 3A

## L_sensor
designator L_sensor?  (value not drawn)
Inductor Sensor; #Manufacturer: Generic Components; #Publisher: Dr. A. Heinzelmann; #Class: Passive; #ClassSub: Resistor; Value: 10u; #Published: 2006-10-06; Type: *; I: *
footprint SensorCoil_Diam11.7
pins: 1, 2
text: L; sensor

## LDC1000
designator U?
Imported; Manufacturer_Part_Number: ldc1000_nhr_16; Vendor: Texas Instruments; RefDes: RefDes; Type: DEV; Value: Value
footprint NHR_16
pins: 1 SCLK (in), 2 CSB (in), 3 SDI (in), 4 VIO (power), 5 SDO (out), 6 DGND (power), 7 CFB, 8 CFA, 9 INA, 10 INB, 11 GND (power), 12 VDD (power), 13 CLDO, 14 TBCLK/XIN (io), 15 XOUT, 16 INTB (out), 17 EPAD

## LMZ10503
designator U?
Buck Converter
footprint TZA07A
pins: 1 VIN, 2 EN, 3 SS, 4 GND, 5 FB, 6 VOUT, 7 VOUT, EP GND

## LMZ13610
designator U?
Buck Converter
footprint TZA11A (Used for LMZ13610)
pins: 1 VIN, 2 VIN, 3 AGND, 4 EN, 5 AGND, 6 AGND, 7 FB, 8 SS, 9 NC, 10 VOUT, 11 VOUT, EP PGND

## MicroSDConnector
designator P?, comment Micro SD Card Connector
footprint MicroSD_Connector_Molex
pins: 1 DATA2, 2 DATA3/CardDetect, 3 CMD, 4 VDD, 5 CLK, 6 VSS, 7 DATA0, 8 DATA1

## NetTie
designator GND?, comment Star GND  (net tie, no BOM)
footprint NetTieGND
pins: 1 GND, 2 DGND, 3 AGND

## NetTieCAN
designator GND?, comment Star GND  (net tie, no BOM)
footprint NetTieGND
pins: 1 GND, 2 DGND, 3 AGND, 4 CAN GND

## Oscillator50MHz
designator *
footprint OSC_50MHz_TXC
pins: 1 EN, 2 GND, 3 VOUT, 4 VDD

## R_Array
designator R?, comment value 22R  (hidden comment: R Array)
footprint R_Array_CAT16-J4
part A pins: 1A 1, 2A 2
part B pins: 1B 1, 2B 2
part C pins: 1C 1, 2C 2
part D pins: 1D 1, 2D 2

## SN65LVDS047PWR
designator U?  (value not drawn)
footprint TSSOP16_TI
pins: 1 EN, 2 DIN1, 3 DIN2, 4 VCC, 5 GND, 6 DIN3, 7 DIN4, 8 !EN, 9 DOUT4-, 10 DOUT4+, 11 DOUT3+, 12 DOUT3-, 13 DOUT2-, 14 DOUT2+, 15 DOUT1+, 16 DOUT1-

## SN65LVDS048APWR
designator U?  (value not drawn)
footprint TSSOP16_TI
pins: 1 RIN1-, 2 RIN1+, 3 RIN2+, 4 RIN2-, 5 RIN3-, 6 RIN3+, 7 RIN4+, 8 RIN4-, 9 !EN, 10 ROUT4, 11 ROUT3, 12 GND, 13 VCC, 14 ROUT2, 15 ROUT1, 16 EN

## SN65LVDT14PW
designator *
footprint TSSOP20
pins: 1 1A, 2 1B, 3 2A, 4 2B, 5 3A, 6 3B, 7 4A, 8 4B, 9 5Y, 10 5Z, 11 GND, 12 5D, 13 VCC, 14 4R, 15 GND, 16 3R, 17 VCC, 18 2R, 19 GND, 20 1R

## TPS54061
designator U?
Buck Converter
footprint VSON_8_TI_TPS54061
pins: 1 BOOT, 2 VIN, 3 EN, 4 RT, 5 VSENSE, 6 COMP, 7 GND, 8 PH, TP GND